# Altium footprint library PcbLib1.PcbLib: 2 footprints
Each footprint in its own frame and in the unit in brackets; x right, y up, seen from the top. Pads: shape width x height; smd on the part's side, far side on the other; paste and mask are expansions set on the pad; w line width, h text height; cw(c..) or ccw(c..) is an arc to the next point about the centre after c.
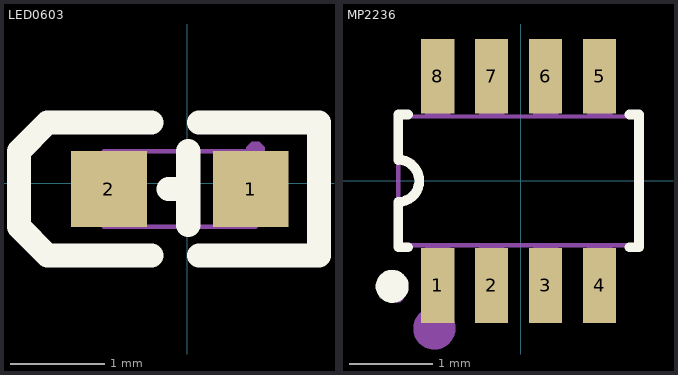
[diagram p0: the footprints below, top view; thin cyan lines are the x and y axes]

## LED0603 [mil]
pads (2):
  rect 31.5x31.5 smd mask+2: 1(26.4,-2.4) 2(-32.6,-2.4)
Top Overlay:
  lines w10: -14.9,-30 -58.2,-30 -70,-18.1 -70,13.3 -58.2,25.2 -14.9,25.2 ; -7.8,-2.4 0.4,-2.3 ; 0.4,-17.4 0.4,13.3 ; 4.8,-30 54.8,-30 54.8,25.2 4.8,25.2
Mechanical 6:
  region: -43.5,3.3 -19.6,3.3 -19.6,-2.8 -43.6,-2.8 -43.6,-2.5
  region: 15.1,2.8 39,2.8 39,-3.3 15,-3.3 15,-3
  region: 24.1,-12.8 24.1,11.2 30.2,11.2 30.2,-12.9 29.9,-12.9
Mechanical 15:
  region: 32.3,13.3 32.3,14.92 30.02,17.2 26.78,17.2 24.5,14.92 24.5,13.3 24.5,11.68 26.78,9.4 30.02,9.4 32.3,11.68
  region: 28.4,11.4 28.4,-16.2 16.6,-16.2 16.6,11.4
  region: -34.6,-16.2 -34.6,11.4 -22.8,11.4 -22.8,-16.2
  lines w2: -34.6,-18.1 28.4,-18.1 28.4,13.3 -34.6,13.3 -34.6,-18.1

## MP2236 [mil]
pads (8):
  rect 15.7x35.4 smd mask+2: 1(-39.5,-49.6) 2(-13.9,-49.6) 3(11.7,-49.6) 4(37.3,-49.6) 5(37.3,49.6) 6(11.7,49.6) 7(-13.9,49.6) 8(-39.5,49.6)
Top Overlay:
  circle w7.9: c-61.1,-50 r3.9
  lines w4.7: -58.21,-10.05 ccw(c-58.3,-0.02) -58.19,10 -58.2,31.5 -53.6,31.5 ; -58.2,-10 -58.2,-31.5 -53.6,-31.5 ; 51.4,-31.5 56,-31.5 56,31.5 51.4,31.5
Mechanical 6:
  circle w10: c-41.1,-70 r5
Mechanical 15:
  region: -45.4,-55.1 -45.4,-37.4 -33.6,-37.4 -33.6,-55.1
  region: -45.4,-37.8 -45.4,-30.1 -33.6,-30.1 -33.6,-37.8
  region: -19.8,-55.1 -19.8,-37.4 -8,-37.4 -8,-55.1
  region: -19.8,-37.8 -19.8,-30.1 -8,-30.1 -8,-37.8
  region: 5.8,-55.1 5.8,-37.4 17.6,-37.4 17.6,-55.1
  region: 5.8,-37.8 5.8,-30.1 17.6,-30.1 17.6,-37.8
  region: 31.4,-55.1 31.4,-37.4 43.2,-37.4 43.2,-55.1
  region: 31.4,-37.8 31.4,-30.1 43.2,-30.1 43.2,-37.8
  region: 31.4,37.4 31.4,55.1 43.2,55.1 43.2,37.4
  region: 31.4,30.1 31.4,37.8 43.2,37.8 43.2,30.1
  region: 5.8,37.4 5.8,55.1 17.6,55.1 17.6,37.4
  region: 5.8,30.1 5.8,37.8 17.6,37.8 17.6,30.1
  region: -19.8,37.4 -19.8,55.1 -8,55.1 -8,37.4
  region: -19.8,30.1 -19.8,37.8 -8,37.8 -8,30.1
  region: -45.4,37.4 -45.4,55.1 -33.6,55.1 -33.6,37.4
  region: -45.4,30.1 -45.4,37.8 -33.6,37.8 -33.6,30.1
  region: -55.8,-55.1 -55.8,-54.11 -57.21,-52.7 -59.19,-52.7 -60.6,-54.11 -60.6,-55.1 -60.6,-56.09 -59.19,-57.5 -57.21,-57.5 -55.8,-56.09 -55.8,-55.1
  lines w2: -58.2,-30.5 56,-30.5 56,30.5 -58.2,30.5 -58.2,-30.5